# Altium footprint library Motor_Driver_Module.PcbLib: 22 footprints (part 1 of 2)
Each footprint in its own frame and in the unit in brackets; x right, y up, seen from the top. Pads: shape width x height; smd on the part's side, far side on the other; paste and mask are expansions set on the pad; w line width, h text height; cw(c..) or ccw(c..) is an arc to the next point about the centre after c.
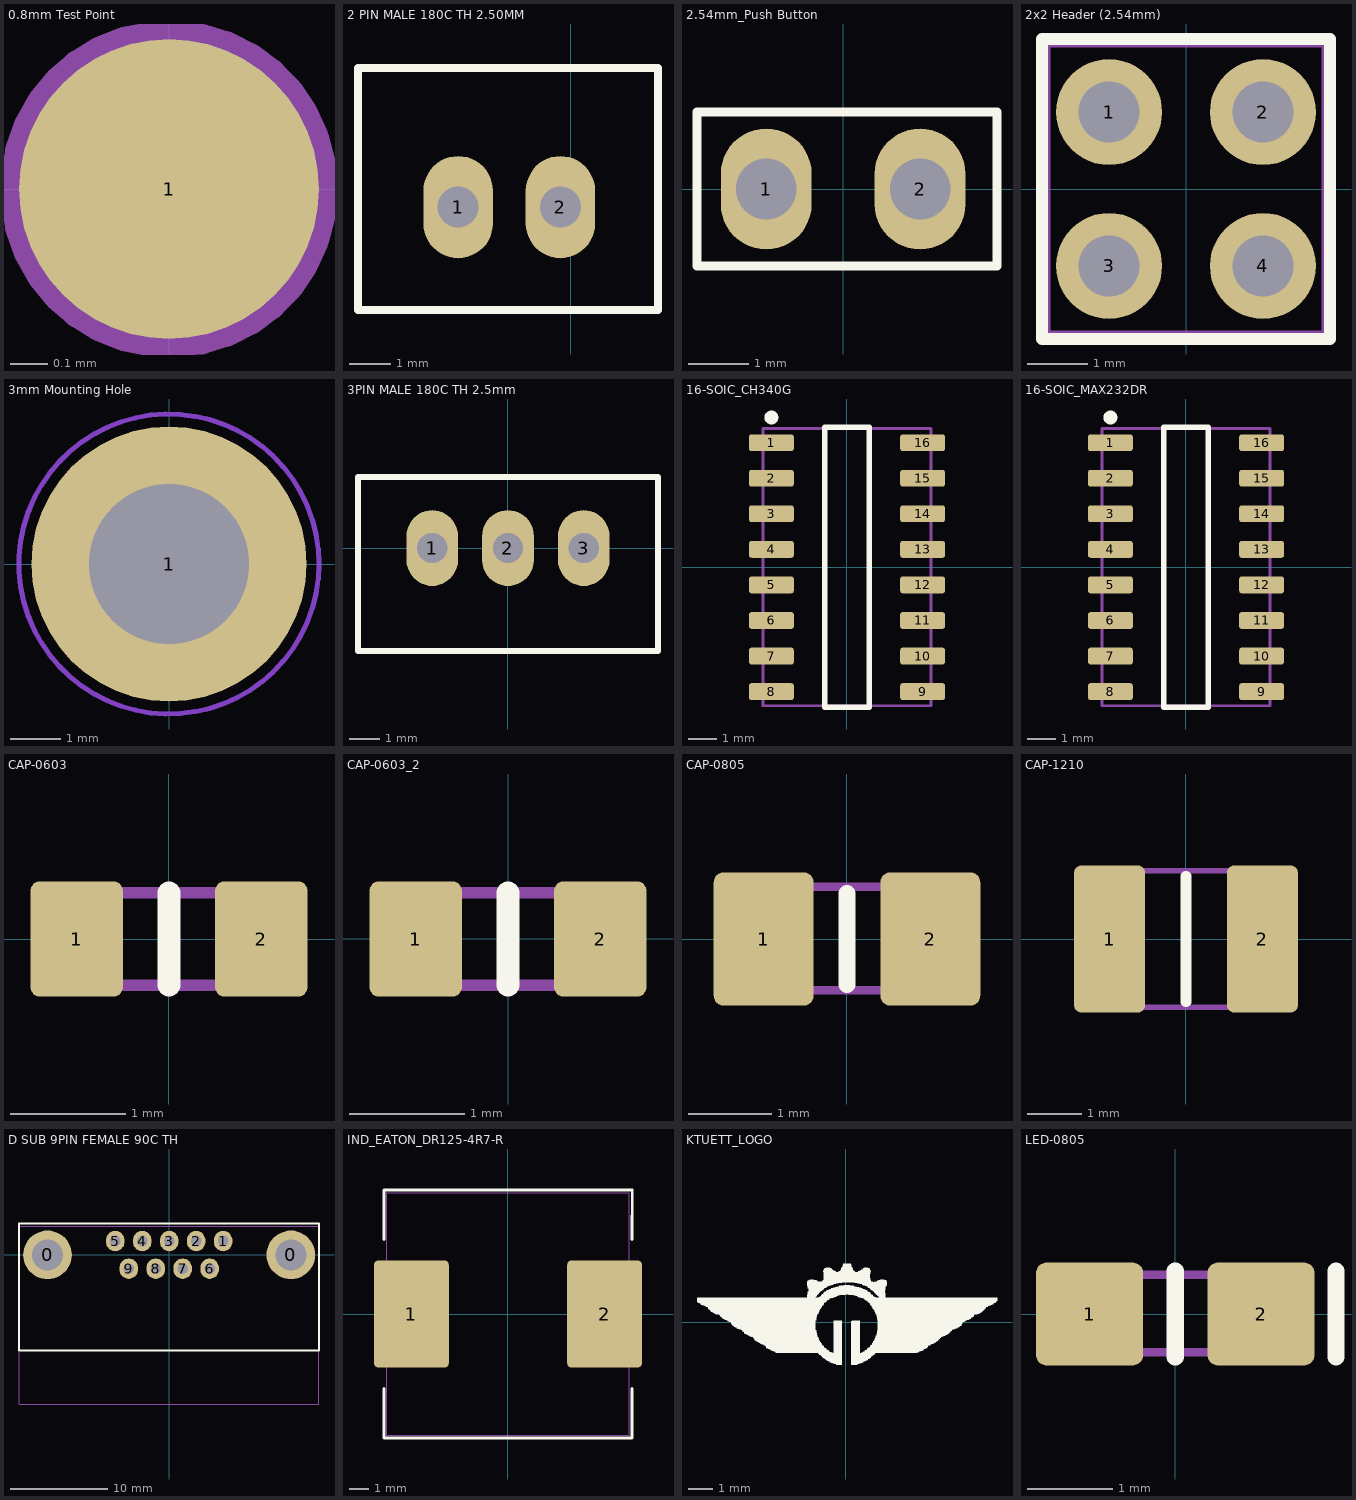
[diagram p0: the footprints below, top view; thin cyan lines are the x and y axes]

## 0.8mm Test Point [mm]
pads (1):
  round 0.8 smd: 1(0,0)
Mechanical 15:
  circle w0.1: c0,0 r0.4
  text ".Designator" at -0.5,-0.1 h0.7

## 2 PIN MALE 180C TH 2.50MM [mm]
pads (2):
  oval 1.7x2.5 hole 1: 1(-2.754,5.08) 2(-0.254,5.08)
Top Overlay:
  lines w0.2: -5.204,2.565 -5.204,8.484 2.134,8.484 2.134,2.565 -5.204,2.565
Mechanical 15:
  lines w0.1: -5.204,2.565 -5.204,8.484 2.134,8.484 2.134,2.565 -5.204,2.565
  text ".Designator" at -4.775,5.156 h0.7
3D body "JST - XH - Thru - 2Pin - 2.5mm (Genuine).stp": height 7.21, standoff -3, extent -5.116,2.642 2.057,8.484

## 2.54mm_Push Button [mm]
pads (2):
  oval 1.5x2 hole 1: 1(-1.27,0) 2(1.27,0)
Top Overlay:
  lines w0.15: -2.413,-1.27 -2.413,1.27 2.54,1.27 2.54,-1.27 -2.413,-1.27

## 2x2 Header (2.54mm) [mm]
pads (4):
  round 1.75 hole 1: 1(-1.27,1.27) 2(1.27,1.27) 3(-1.27,-1.27) 4(1.27,-1.27)
Top Overlay:
  lines w0.2: -2.375,-2.475 -2.375,2.475 2.375,2.475 2.375,-2.475 -2.375,-2.475
Mechanical 15:
  lines w0.2: -2.337,-2.438 -2.337,2.439 2.337,2.439 2.337,-2.438 -2.337,-2.438
  text ".Designator" at -0.6,0 h0.7
3D body "70042464.stp": height 8.24, standoff -2.93, extent -2.337,-2.438 2.337,2.439

## 3mm Mounting Hole [mm]
pads (1):
  round 5.5 hole 3.2: 1(0,0)
Top Layer keep-out:
  circle w0.1: c0,0 r3
Bottom Layer keep-out:
  circle w0.1: c0,0 r3

## 3PIN MALE 180C TH 2.5mm [mm]
pads (3):
  oval 1.7x2.5 hole 1: 1(-2.5,0) 2(0,0) 3(2.5,0)
Top Overlay:
  lines w0.2: -4.95,2.35 -4.95,-3.4 4.95,-3.4 4.95,2.35 -4.95,2.35
Mechanical 15:
  lines w0.1: -4.95,2.35 4.95,2.35 4.95,-3.4 -4.95,-3.4 -4.95,2.35
  text ".Designator" at -2.1,-0.225 h0.7
3D body "B3B-XH-A-LF--SN---3DModel-STEP-269445.STEP": height 7, standoff -3.4, extent -4.95,-3.4 4.95,2.35

## 16-SOIC_CH340G [mm]
pads (16):
  rrect30% 1.6x0.6 smd: 1(-2.7,4.445) 2(-2.7,3.175) 3(-2.7,1.905) 4(-2.7,0.635) 5(-2.7,-0.635) 6(-2.7,-1.905) 7(-2.7,-3.175) 8(-2.7,-4.445) 9(2.7,-4.445) 10(2.7,-3.175) 11(2.7,-1.905) 12(2.7,-0.635) 13(2.7,0.635) 14(2.7,1.905) 15(2.7,3.175) 16(2.7,4.445)
Top Overlay:
  circle w0.25: c-2.7,5.345 r0.125
  lines w0.2: -0.8,-5 0.8,-5 0.8,5 -0.8,5 -0.8,-5
Mechanical 15:
  lines w0.1: -3,-4.95 -3,4.95 3,4.95 3,-4.95 -3,-4.95
  lines w0.2: -2.4,4.4 -2.4,4.4
  text ".Designator" at -0.7,-0.4 h0.7
3D body "SOIC-16.STEP": height 1.4, standoff 0, extent -3,-4.95 3,4.95

## 16-SOIC_MAX232DR [mm]
pads (16):
  rrect30% 1.6x0.6 smd: 1(-2.7,4.445) 2(-2.7,3.175) 3(-2.7,1.905) 4(-2.7,0.635) 5(-2.7,-0.635) 6(-2.7,-1.905) 7(-2.7,-3.175) 8(-2.7,-4.445) 9(2.7,-4.445) 10(2.7,-3.175) 11(2.7,-1.905) 12(2.7,-0.635) 13(2.7,0.635) 14(2.7,1.905) 15(2.7,3.175) 16(2.7,4.445)
Top Overlay:
  circle w0.25: c-2.7,5.345 r0.125
  lines w0.2: -0.8,-5 0.8,-5 0.8,5 -0.8,5 -0.8,-5
Mechanical 15:
  lines w0.1: -3,-4.95 -3,4.95 3,4.95 3,-4.95 -3,-4.95
  lines w0.2: -2.4,4.4 -2.4,4.4
  text ".Designator" at -0.7,-0.4 h0.7
3D body "SOIC-16.STEP": height 1.4, standoff 0, extent -3,-4.95 3,4.95

## CAP-0603 [mm]
pads (2):
  rrect20% 0.8x1 smd: 1(-0.8,0) 2(0.8,0)
Top Overlay:
  lines w0.2: 0,-0.4 0,0.4
Mechanical 15:
  lines w0.1: -0.8,-0.4 -0.8,0.4 0.8,0.4 0.8,-0.4 -0.8,-0.4
  text ".Designator" at -0.5,-0.1 h0.7
3D body "User Library-User Library-cap0603_cap0603_body.STEP": height 0.87, standoff -0.01, extent -0.8,-0.405 0.8,0.405

## CAP-0603_2 [mm]
pads (2):
  rrect20% 0.8x1 smd: 1(-0.8,0) 2(0.8,0)
Top Overlay:
  lines w0.2: 0,-0.4 0,0.4
Mechanical 15:
  lines w0.1: -0.8,-0.4 0.8,-0.4 0.8,0.4 -0.8,0.4 -0.8,-0.4
  text ".Designator" at -0.5,-0.1 h0.7
3D body "User Library-User Library-cap0603_cap0603_body.STEP": height 0.87, standoff -0.01, extent -0.8,-0.405 0.8,0.405

## CAP-0805 [mm]
pads (2):
  rrect20% 1.2x1.6 smd: 1(-1,0) 2(1,0)
Top Overlay:
  lines w0.2: 0,-0.55 0,0.55
Mechanical 15:
  lines w0.1: -1,-0.614 1,-0.614 1,0.625 -1,0.625 -1,-0.614
  text ".Designator" at -0.8,-0.114 h0.7
3D body "0805-SMD-Capacitor.STEP": height 0.78, standoff 0, extent -1,-0.625 1,0.625

## CAP-1210 [mm]
pads (2):
  rrect20% 1.3x2.7 smd: 1(-1.4,0) 2(1.4,0)
Top Overlay:
  lines w0.2: 0,-1.15 0,1.15
Mechanical 15:
  lines w0.1: -1.6,-1.25 -1.6,1.25 1.6,1.25 1.6,-1.25 -1.6,-1.25
  text ".Designator" at -0.8,-0.114 h0.7
3D body "User Library-cap_1210_lowprofile.STEP": height 1.3, standoff 0, extent -1.6,-1.25 1.6,1.25

## D SUB 9PIN FEMALE 90C TH [mm]
pads (11):
  round 5 hole 3.2: 0(-12.495,0) 0(12.495,0)
  oval 1.9x2.1 hole 1.09: 1(5.54,1.42) 2(2.77,1.42) 3(0,1.42) 4(-2.77,1.42) 5(-5.54,1.42) 6(4.155,-1.42) 7(1.385,-1.42) 8(-1.385,-1.42) 9(-4.155,-1.42)
Top Overlay:
  lines w0.2: -15.425,-9.8 -15.425,3.2 15.385,3.2 15.385,-9.8 -15.425,-9.8
Mechanical 15:
  lines w0.1: -15.425,-15.345 -15.425,2.955 15.385,2.955 15.385,-15.345 -15.425,-15.345
  text ".Designator" at -0.6,0 h0.7
3D body "connector_a-df_09_a_kg-t2.stp": height 12.47, standoff -4.4, extent -15.425,-15.345 15.385,2.955

## IND_EATON_DR125-4R7-R [mm]
pads (2):
  rrect10% 3.85x5.5 smd: 1(-4.975,0) 2(4.975,0)
Top Overlay:
  lines w0.152: -6.375,-3.838 -6.375,-6.375 6.375,-6.375 6.375,-3.838 ; -6.375,3.838 -6.375,6.375 6.4,6.375 6.375,3.838
Mechanical 15:
  lines w0.025: -6.25,-6.25 6.25,-6.25 6.25,6.25 -6.25,6.25 -6.25,-6.25
  text ".Designator" at -0.775,-0.1 h0.7
3D body "DR127-4R7-R.stp": height 8.5, standoff 0, extent -6.25,-6.25 6.25,6.25

## KTUETT_LOGO [mil]
Top Overlay:
  drawing of 440 lines, arcs and shapes, not listed

## LED-0805 [mm]
pads (2):
  rrect20% 1.25x1.2 smd: 1(-1,0) 2(1,0)
Top Overlay:
  lines w0.2: 0,-0.5 0,0.5 ; 1.875,-0.5 1.875,0.5
Mechanical 15:
  lines w0.1: 1.06,-0.447 -1.003,-0.447 -1.003,0.46 1.06,0.46 1.06,-0.44
  text ".Designator" at -0.5,-0.1 h0.7
3D body "LED 0805.STEP": height 0.85, standoff 0.01, extent -1.003,-0.447 1.06,0.46